# Altium footprint library Markpoint.PcbLib: 1 footprints
Each footprint in its own frame and in the unit in brackets; x right, y up, seen from the top. Pads: shape width x height; smd on the part's side, far side on the other; paste and mask are expansions set on the pad; w line width, h text height; cw(c..) or ccw(c..) is an arc to the next point about the centre after c.
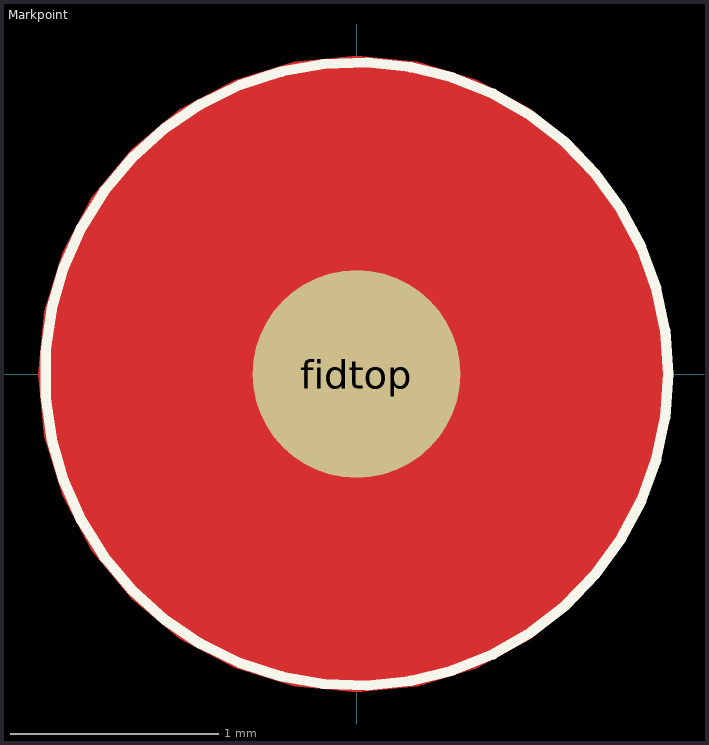
[diagram p0: the footprint, top view; thin cyan lines are the x and y axes]

## Markpoint [mm]
pads (1):
  round 1 smd paste-2.54 mask+1: fidtop(0,0)
Top Layer:
  pour cut-out: 0,-1.531 -0.299,-1.502 -0.586,-1.415 -0.851,-1.273 -1.083,-1.083 -1.273,-0.851 -1.415,-0.586 -1.502,-0.299 -1.531,0 -1.502,0.299 -1.415,0.586 -1.273,0.851 -1.083,1.083 -0.851,1.273 -0.586,1.415 -0.299,1.502 0,1.531 0.294,1.502 0.577,1.417 0.837,1.277 1.066,1.09 1.253,0.861 1.393,0.601 1.478,0.318 1.507,0.024 1.5,0.024 1.507,-0.024 1.478,-0.318 1.393,-0.601 1.253,-0.861 1.066,-1.09 0.837,-1.277 0.577,-1.417 0.294,-1.502
Top Overlay:
  circle w0.05: c0,0 r1.5